# Altium schematic symbol library Schlib1.SchLib: 4 symbols
Pins are listed as number, name and electrical type; pins without a type are passive.

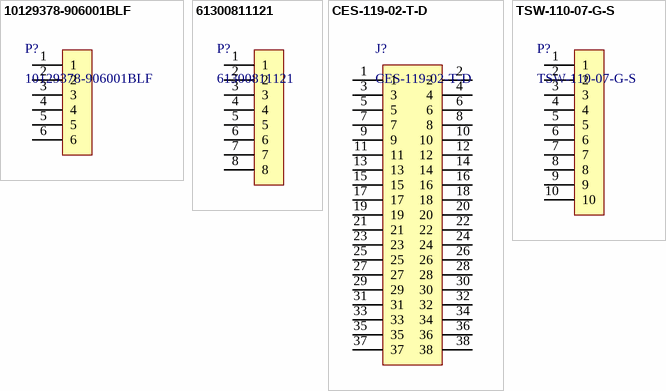
[diagram p0: symbols 10129378-906001BLF to TSW-110-07-G-S]

## 10129378-906001BLF
designator P?
Headers & Wire Housings ECONOSTIK HEADER SR VT TH 1X6; Manufacturer_Name: Amphenol Communications Solutions; Description: EconoStik 2.54mm; Datasheet Link: https://cdn.amphenol-cs.com/media/wysiwyg/files/documentation/datasheet/boardwiretoboard/bwb_econostik_254headers.pdf; Height: 8.58mm; Manufacturer_Part_Number: 10129378-906001BLF
footprint 10129378906001BLF
pins: 1, 2, 3, 4, 5, 6

## 61300811121
designator P?
Headers & Wire Housings WR-PHD 2.54mm Hdr 8P Single Str Gold; Manufacturer_Name: Wurth Elektronik; Description: WR-PHD 2.54mm Pin Header THT Straight 8p Wurth Elektronik WR-PHD Series; Datasheet Link: http://katalog.we-online.de/em/datasheet/6130xx11121.pdf; Height: 8.54mm; Manufacturer_Part_Number: 61300811121; Mouser Part Number: 710-61300811121; Mouser Price/Stock: https://www.mouser.co.uk/ProductDetail/Wurth-Elektronik/61300811121?qs=PhR8RmCirEZRdx%252BVlEmRRA%3D%3D
footprint HDRV8W64P0X254_1X8_2032X254X854P
pins: 1, 2, 3, 4, 5, 6, 7, 8

## CES-119-02-T-D
designator J?
Headers & Wire Housings .100" Closed Entry Low Profile Socket Strip, 2x19
footprint SAMTEC_CES-119-02-T-D
pins: 1, 2, 3, 4, 5, 6, 7, 8, 9, 10, 11, 12, 13, 14, 15, 16, 17, 18, 19, 20, 21, 22, 23, 24, 25, 26, 27, 28, 29, 30, 31, 32, 33, 34, 35, 36, 37, 38

## TSW-110-07-G-S
designator P?
Headers & Wire Housings Classic PCB Header Strips, 0.100" pitch; Description: Samtec; Datasheet Link: https://suddendocs.samtec.com/catalog_english/tsw_th.pdf; Height: 8.38mm; Manufacturer_Name: SAMTEC; Manufacturer_Part_Number: TSW-110-07-G-S; Mouser Part Number: 200-TSW11007GS; Mouser Price/Stock: https://www.mouser.co.uk/ProductDetail/Samtec/TSW-110-07-G-S?qs=FESYatJ8odKyHT0KAD0CRw%3D%3D; Arrow Part Number: TSW-110-07-G-S; Arrow Price/Stock: https://www.arrow.com/en/products/tsw-110-07-g-s/samtec?region=nac
footprint HDRV10W64P0X254_1X10_2540X254X838P
pins: 1, 2, 3, 4, 5, 6, 7, 8, 9, 10